# Altium integrated library WS-DITU 2.54 mm right angled compact THT Dip Switch with flat actuator.IntLib: 20 symbols
Pins are listed as number, name and electrical type; pins without a type are passive.

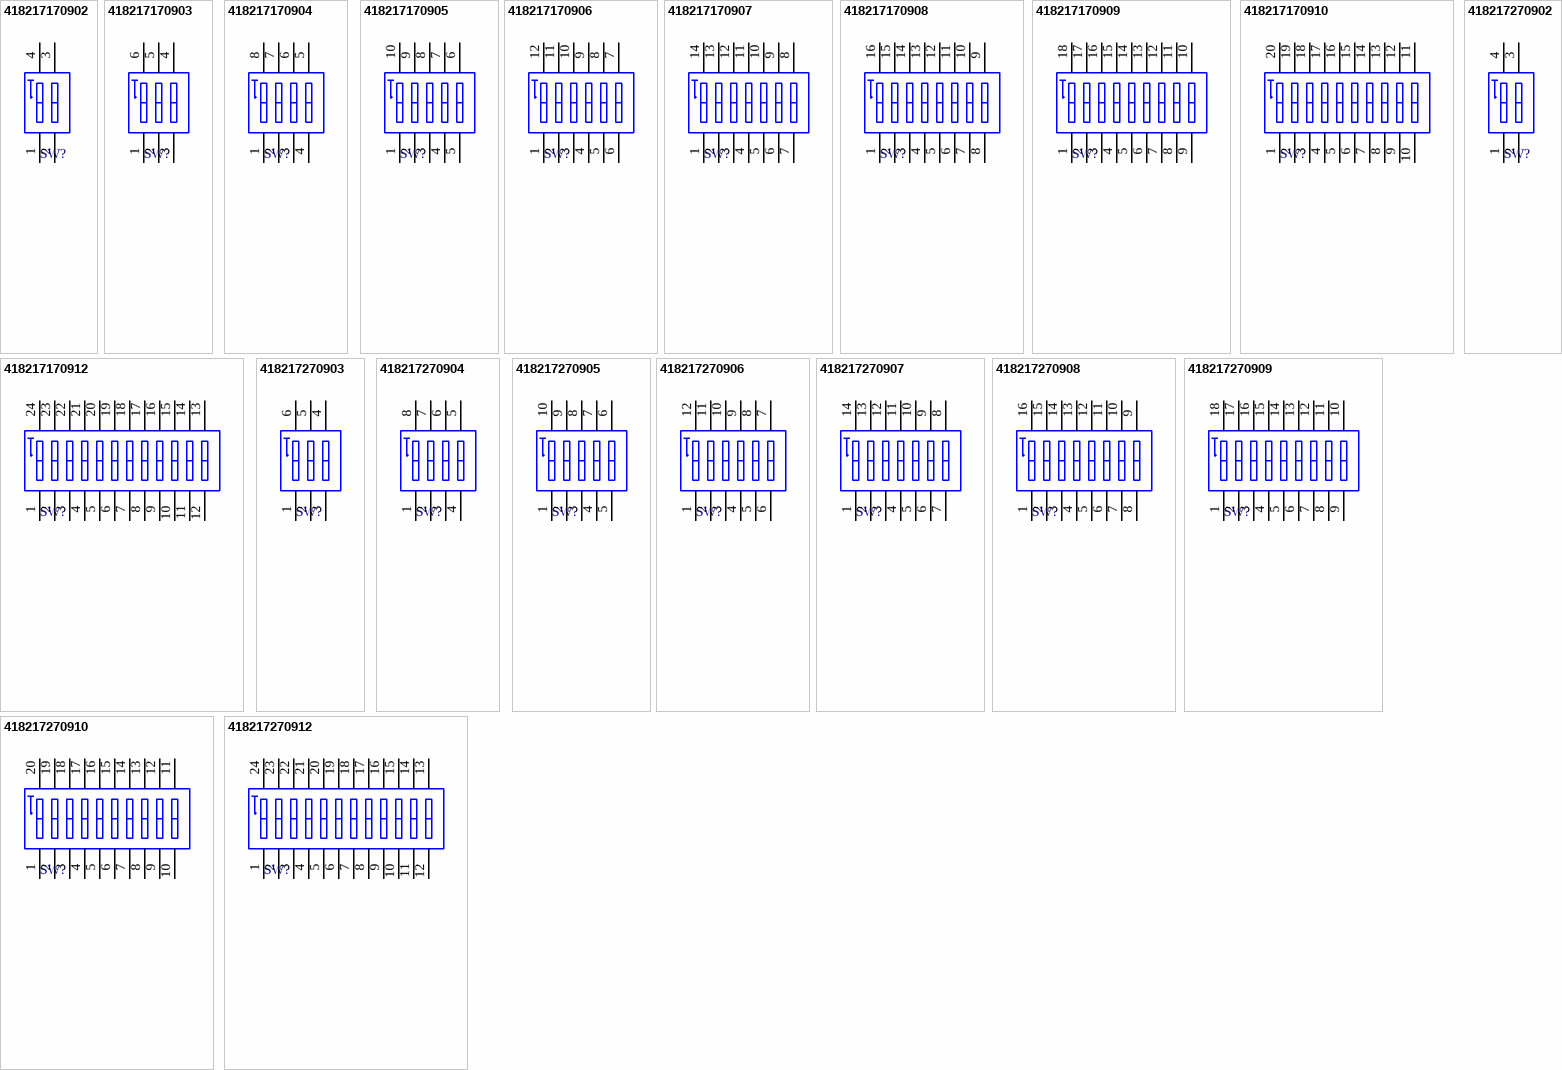
[diagram p0: symbols 418217170902 to 418217270912]

## 418217170902
designator SW?
WS-DITU 2.54 mm right angled compact THT Dip Switch with flat actuator; PartNumber: 418217170902; NoPins: 4; PackageReference: 418217170902; ComponentLink1Description: Manufacturer URL; ComponentLink1URL: http://www.we-online.com; ComponentLink2Description: Datasheet; ComponentLink2URL: http://katalog.we-online.de/em/datasheet/4182171709xx.pdf
footprint 418217170902 (02p, 2.54mm Pitch, Right Angled, Box Type, THT, flat Actuator, red, without Tape, Tube)
pins: 1, 2, 3, 4

## 418217170903
designator SW?
WS-DITU 2.54 mm right angled compact THT Dip Switch with flat actuator; PartNumber: 418217170903; NoPins: 6; PackageReference: 418217170903; ComponentLink1Description: Manufacturer URL; ComponentLink1URL: http://www.we-online.com; ComponentLink2Description: Datasheet; ComponentLink2URL: http://katalog.we-online.de/em/datasheet/4182171709xx.pdf
footprint 418217170903 (03p, 2.54mm Pitch, Right Angled, Box Type, THT, flat Actuator, red, without Tape, Tube)
pins: 1, 2, 3, 4, 5, 6

## 418217170904
designator SW?
WS-DITU 2.54 mm right angled compact THT Dip Switch with flat actuator; PartNumber: 418217170904; NoPins: 8; PackageReference: 418217170904; ComponentLink1Description: Manufacturer URL; ComponentLink1URL: http://www.we-online.com; ComponentLink2Description: Datasheet; ComponentLink2URL: http://katalog.we-online.de/em/datasheet/4182171709xx.pdf
footprint 418217170904 (04p, 2.54mm Pitch, Right Angled, Box Type, THT, flat Actuator, red, without Tape, Tube)
pins: 1, 2, 3, 4, 5, 6, 7, 8

## 418217170905
designator SW?
WS-DITU 2.54 mm right angled compact THT Dip Switch with flat actuator; PartNumber: 418217170905; NoPins: 10; PackageReference: 418217170905; ComponentLink1Description: Manufacturer URL; ComponentLink1URL: http://www.we-online.com; ComponentLink2Description: Datasheet; ComponentLink2URL: http://katalog.we-online.de/em/datasheet/4182171709xx.pdf
footprint 418217170905 (05p, 2.54mm Pitch, Right Angled, Box Type, THT, flat Actuator, red, without Tape, Tube)
pins: 1, 2, 3, 4, 5, 6, 7, 8, 9, 10

## 418217170906
designator SW?
WS-DITU 2.54 mm right angled compact THT Dip Switch with flat actuator; PartNumber: 418217170906; NoPins: 12; PackageReference: 418217170906; ComponentLink1Description: Manufacturer URL; ComponentLink1URL: http://www.we-online.com; ComponentLink2Description: Datasheet; ComponentLink2URL: http://katalog.we-online.de/em/datasheet/4182171709xx.pdf
footprint 418217170906 (06p, 2.54mm Pitch, Right Angled, Box Type, THT,flat Actuator, red, without Tape, Tube)
pins: 1, 2, 3, 4, 5, 6, 7, 8, 9, 10, 11, 12

## 418217170907
designator SW?
WS-DITU 2.54 mm right angled compact THT Dip Switch with flat actuator; PartNumber: 418217170907; NoPins: 14; PackageReference: 418217170907; ComponentLink1Description: Manufacturer URL; ComponentLink1URL: http://www.we-online.com; ComponentLink2Description: Datasheet; ComponentLink2URL: http://katalog.we-online.de/em/datasheet/4182171709xx.pdf
footprint 418217170907 (07p, 2.54mm Pitch, Right Angled, Box Type, THT, flat Actuator, red, without Tape, Tube)
pins: 1, 2, 3, 4, 5, 6, 7, 8, 9, 10, 11, 12, 13, 14

## 418217170908
designator SW?
WS-DITU 2.54 mm right angled compact THT Dip Switch with flat actuator; PartNumber: 418217170908; NoPins: 16; PackageReference: 418217170908; ComponentLink1Description: Manufacturer URL; ComponentLink1URL: http://www.we-online.com; ComponentLink2Description: Datasheet; ComponentLink2URL: http://katalog.we-online.de/em/datasheet/4182171709xx.pdf
footprint 418217170908 (08p, 2.54mm Pitch, Right Angled, Box Type, THT, flat Actuator, red, without Tape, Tube)
pins: 1, 2, 3, 4, 5, 6, 7, 8, 9, 10, 11, 12, 13, 14, 15, 16

## 418217170909
designator SW?
WS-DITU 2.54 mm right angled compact THT Dip Switch with flat actuator; PartNumber: 418217170909; NoPins: 18; PackageReference: 418217170909; ComponentLink1Description: Manufacturer URL; ComponentLink1URL: http://www.we-online.com; ComponentLink2Description: Datasheet; ComponentLink2URL: http://katalog.we-online.de/em/datasheet/4182171709xx.pdf
footprint 418217170909 (09p, 2.54mm Pitch, Right Angled, Box Type, THT, flat Actuator, red, without Tape, Tube)
pins: 1, 2, 3, 4, 5, 6, 7, 8, 9, 10, 11, 12, 13, 14, 15, 16, 17, 18

## 418217170910
designator SW?
WS-DITU 2.54 mm right angled compact THT Dip Switch with flat actuator; PartNumber: 418217170910; NoPins: 20; PackageReference: 418217170910; ComponentLink1Description: Manufacturer URL; ComponentLink1URL: http://www.we-online.com; ComponentLink2Description: Datasheet; ComponentLink2URL: http://katalog.we-online.de/em/datasheet/4182171709xx.pdf
footprint 418217170910 (10p, 2.54mm Pitch, Right Angled, Box Type, THT,flat Actuator, red, without Tape, Tube)
pins: 1, 2, 3, 4, 5, 6, 7, 8, 9, 10, 11, 12, 13, 14, 15, 16, 17, 18, 19, 20

## 418217170912
designator SW?
WS-DITU 2.54 mm right angled compact THT Dip Switch with flat actuator; PartNumber: 418217170912; NoPins: 24; PackageReference: 418217170912; ComponentLink1Description: Manufacturer URL; ComponentLink1URL: http://www.we-online.com; ComponentLink2Description: Datasheet; ComponentLink2URL: http://katalog.we-online.de/em/datasheet/4182171709xx.pdf
footprint 418217170912 (12p, 2.54mm Pitch, Right Angled, Box Type, THT, flat Actuator, red, without Tape, Tube)
pins: 1, 2, 3, 4, 5, 6, 7, 8, 9, 10, 11, 12, 13, 14, 15, 16, 17, 18, 19, 20, 21, 22, 23, 24

## 418217270902
designator SW?
WS-DITU 2.54 mm right angled compact THT Dip Switch with raised actuator; PartNumber: 418217270902; NoPins: 4; PackageReference: 418217270902; ComponentLink1Description: Manufacturer URL; ComponentLink1URL: http://www.we-online.com; ComponentLink2Description: Datasheet; ComponentLink2URL: http://katalog.we-online.de/em/datasheet/4182172709xx.pdf
footprint 418217270902 (02p, 2.54mm Pitch, Right Angled, Box Type, THT, raised Actuator, red, without Tape, Tube)
pins: 1, 2, 3, 4

## 418217270903
designator SW?
WS-DITU 2.54 mm right angled compact THT Dip Switch with raised actuator; PartNumber: 418217270903; NoPins: 6; PackageReference: 418217270903; ComponentLink1Description: Manufacturer URL; ComponentLink1URL: http://www.we-online.com; ComponentLink2Description: Datasheet; ComponentLink2URL: http://katalog.we-online.de/em/datasheet/4182172709xx.pdf
footprint 418217270903 (03p, 2.54mm Pitch, Right Angled, Box Type, THT, raised Actuator, red, without Tape, Tube)
pins: 1, 2, 3, 4, 5, 6

## 418217270904
designator SW?
WS-DITU 2.54 mm right angled compact THT Dip Switch with raised actuator; PartNumber: 418217270904; NoPins: 8; PackageReference: 418217270904; ComponentLink1Description: Manufacturer URL; ComponentLink1URL: http://www.we-online.com; ComponentLink2Description: Datasheet; ComponentLink2URL: http://katalog.we-online.de/em/datasheet/4182172709xx.pdf
footprint 418217270904 (04p, 2.54mm Pitch, Right Angled, Box Type, THT, raised Actuator, red, without Tape, Tube)
pins: 1, 2, 3, 4, 5, 6, 7, 8

## 418217270905
designator SW?
WS-DITU 2.54 mm right angled compact THT Dip Switch with raised actuator; PartNumber: 418217270905; NoPins: 10; PackageReference: 418217270905; ComponentLink1Description: Manufacturer URL; ComponentLink1URL: http://www.we-online.com; ComponentLink2Description: Datasheet; ComponentLink2URL: http://katalog.we-online.de/em/datasheet/4182172709xx.pdf
footprint 418217270905 (05p, 2.54mm Pitch, Right Angled, Box Type, THT, raised Actuator, red, without Tape, Tube)
pins: 1, 2, 3, 4, 5, 6, 7, 8, 9, 10

## 418217270906
designator SW?
WS-DITU 2.54 mm right angled compact THT Dip Switch with raised actuator; PartNumber: 418217270906; NoPins: 12; PackageReference: 418217270906; ComponentLink1Description: Manufacturer URL; ComponentLink1URL: http://www.we-online.com; ComponentLink2Description: Datasheet; ComponentLink2URL: http://katalog.we-online.de/em/datasheet/4182172709xx.pdf
footprint 418217270906 (06p, 2.54mm Pitch, Right Angled, Box Type, THT, raised Actuator, red, without Tape, Tube)
pins: 1, 2, 3, 4, 5, 6, 7, 8, 9, 10, 11, 12

## 418217270907
designator SW?
WS-DITU 2.54 mm right angled compact THT Dip Switch with raised actuator; PartNumber: 418217270907; NoPins: 14; PackageReference: 418217270907; ComponentLink1Description: Manufacturer URL; ComponentLink1URL: http://www.we-online.com; ComponentLink2Description: Datasheet; ComponentLink2URL: http://katalog.we-online.de/em/datasheet/4182172709xx.pdf
footprint 418217270907 (07p, 2.54mm Pitch, Right Angled, Box Type, THT, raised Actuator, red, without Tape, Tube)
pins: 1, 2, 3, 4, 5, 6, 7, 8, 9, 10, 11, 12, 13, 14

## 418217270908
designator SW?
WS-DITU 2.54 mm right angled compact THT Dip Switch with raised actuator; PartNumber: 418217270908; NoPins: 16; PackageReference: 418217270908; ComponentLink1Description: Manufacturer URL; ComponentLink1URL: http://www.we-online.com; ComponentLink2Description: Datasheet; ComponentLink2URL: http://katalog.we-online.de/em/datasheet/4182172709xx.pdf
footprint 418217270908 (08p, 2.54mm Pitch, Right Angled, Box Type, THT, raised Actuator, red, without Tape, Tube)
pins: 1, 2, 3, 4, 5, 6, 7, 8, 9, 10, 11, 12, 13, 14, 15, 16

## 418217270909
designator SW?
WS-DITU 2.54 mm right angled compact THT Dip Switch with raised actuator; PartNumber: 418217270909; NoPins: 18; PackageReference: 418217270909; ComponentLink1Description: Manufacturer URL; ComponentLink1URL: http://www.we-online.com; ComponentLink2Description: Datasheet; ComponentLink2URL: http://katalog.we-online.de/em/datasheet/4182172709xx.pdf
footprint 418217270909 (09p, 2.54mm Pitch, Right Angled, Box Type, THT, raised Actuator, red, without Tape, Tube)
pins: 1, 2, 3, 4, 5, 6, 7, 8, 9, 10, 11, 12, 13, 14, 15, 16, 17, 18

## 418217270910
designator SW?
WS-DITU 2.54 mm right angled compact THT Dip Switch with raised actuator; PartNumber: 418217270910; NoPins: 20; PackageReference: 418217270910; ComponentLink1Description: Manufacturer URL; ComponentLink1URL: http://www.we-online.com; ComponentLink2Description: Datasheet; ComponentLink2URL: http://katalog.we-online.de/em/datasheet/4182172709xx.pdf
footprint 418217270910 (10p, 2.54mm Pitch, Right Angled, Box Type, THT, raised Actuator, red, without Tape, Tube)
pins: 1, 2, 3, 4, 5, 6, 7, 8, 9, 10, 11, 12, 13, 14, 15, 16, 17, 18, 19, 20

## 418217270912
designator SW?
WS-DITU 2.54 mm right angled compact THT Dip Switch with raised actuator; PartNumber: 418217270912; NoPins: 24; PackageReference: 418217270912; ComponentLink1Description: Manufacturer URL; ComponentLink1URL: http://www.we-online.com; ComponentLink2Description: Datasheet; ComponentLink2URL: http://katalog.we-online.de/em/datasheet/4182172709xx.pdf
footprint 418217270912 (12p, 2.54mm Pitch, Right Angled, Box Type, THT, raised Actuator, red, without Tape, Tube)
pins: 1, 2, 3, 4, 5, 6, 7, 8, 9, 10, 11, 12, 13, 14, 15, 16, 17, 18, 19, 20, 21, 22, 23, 24